# EAGLE library part ADAFRUIT-ULTIMATE-GPS (library Denemelib)
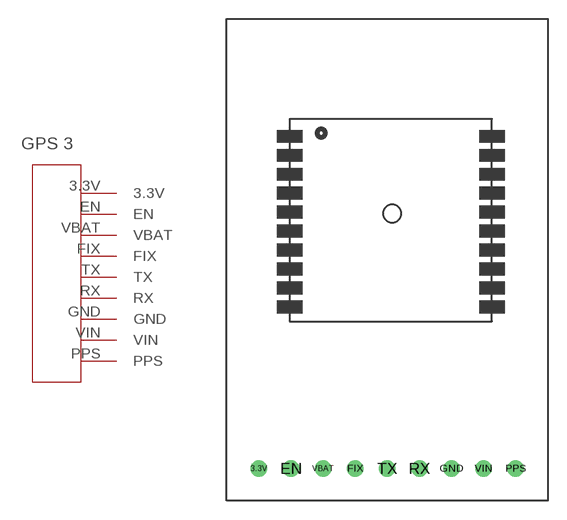
[diagram p0: symbol with the pads of ADAFRUIT-ULTIMATE-GPS; footprint ADAFRUIT-ULTIMATE-GPS]

Designator prefix -

## ADAFRUIT-ULTIMATE-GPS  [ADAFRUIT-ULTIMATE-GPS]
3.3V  3.3V
EN  EN
FIX  FIX
GND  GND
PPS  PPS
RX  RX
TX  TX
VBAT  VBAT
VIN  VIN

## Footprint ADAFRUIT-ULTIMATE-GPS (pad centres in mm)
drill 0.8: 3.3V -10.16,-2.54; EN -7.62,-2.54; FIX -2.54,-2.54; GND 5.08,-2.54; PPS 10.16,-2.54; RX 2.54,-2.54; TX 0,-2.54; VBAT -5.08,-2.54; VIN 7.62,-2.54